# Altium footprint library 01000020Z_15mm.PcbLib: 1 footprints
Each footprint in its own frame and in the unit in brackets; x right, y up, seen from the top. Pads: shape width x height; smd on the part's side, far side on the other; paste and mask are expansions set on the pad; w line width, h text height; cw(c..) or ccw(c..) is an arc to the next point about the centre after c.
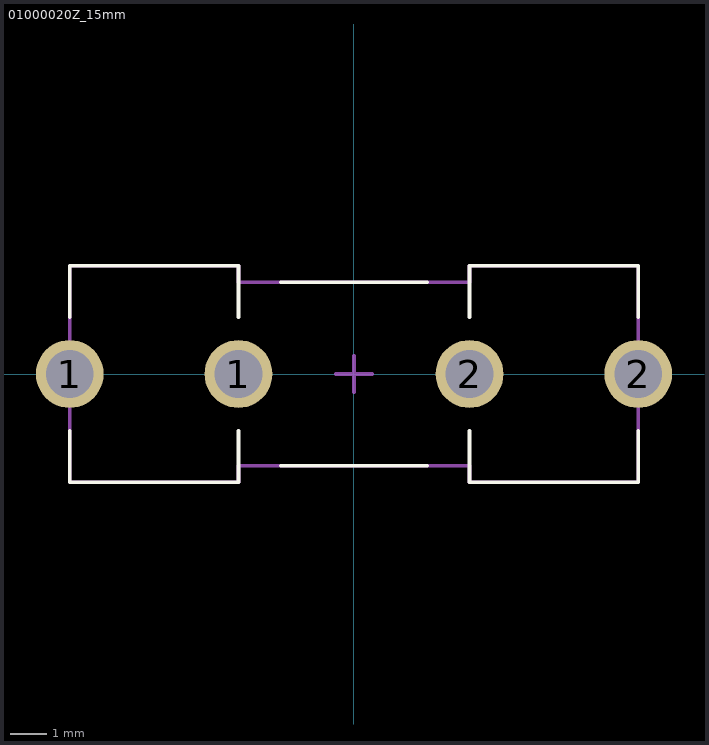
[diagram p0: the footprint, top view; thin cyan lines are the x and y axes]

## 01000020Z_15mm [mm]
pads (4):
  round 1.85 hole 1.3: 1(-7.75,0) 1(-3.15,0) 2(3.15,0) 2(7.75,0)
Top Overlay:
  lines w0.1: -7.75,-1.55 -7.75,-2.95 -3.15,-2.95 -3.15,-1.55 ; -7.75,1.55 -7.75,2.95 -3.15,2.95 -3.15,1.55 ; -2,-2.5 2,-2.5 ; -2,2.5 2,2.5 ; 3.15,-1.55 3.15,-2.15 3.15,-2.95 7.75,-2.95 7.75,-2 7.75,-1.55 ; 3.15,1.55 3.15,2.1 3.15,2.95 7.75,2.95 7.75,2 7.75,1.55
Mechanical 13:
  lines w0.1: -7.75,-2.95 -3.15,-2.95 -3.15,-2.5 3.15,-2.5 3.15,-2.95 7.75,-2.95 7.75,2.95 3.15,2.95 3.15,2.5 -3.15,2.5 -3.15,2.95 -7.75,2.95 ; -7.75,-2.95 -7.75,-2.95 ; -7.75,-2.95 -7.75,0 -7.75,2.95 ; -7.75,2.95 -7.75,2.95
Mechanical 15:
  lines w0.1: -0.5,0 0,0 ; 0,-0.5 0,0 ; 0,0.5 0,0 ; 0.5,0 0,0
3D body: height 8.25, standoff 3.75, extent -7.5,-2.25 7.5,2.243
3D body "FuseClip.stp": height 8.38, standoff -3.35, extent 2.899,-2.764 8,2.764
3D body "FuseClip.stp": height 8.38, standoff -3.35, extent -8.001,-2.764 -2.9,2.764